# Altium footprint library XC7K160T.PcbLib: 72 footprints (part 4 of 5)
Each footprint in its own frame and in the unit in brackets; x right, y up, seen from the top. Pads: shape width x height; smd on the part's side, far side on the other; paste and mask are expansions set on the pad; w line width, h text height; cw(c..) or ccw(c..) is an arc to the next point about the centre after c.
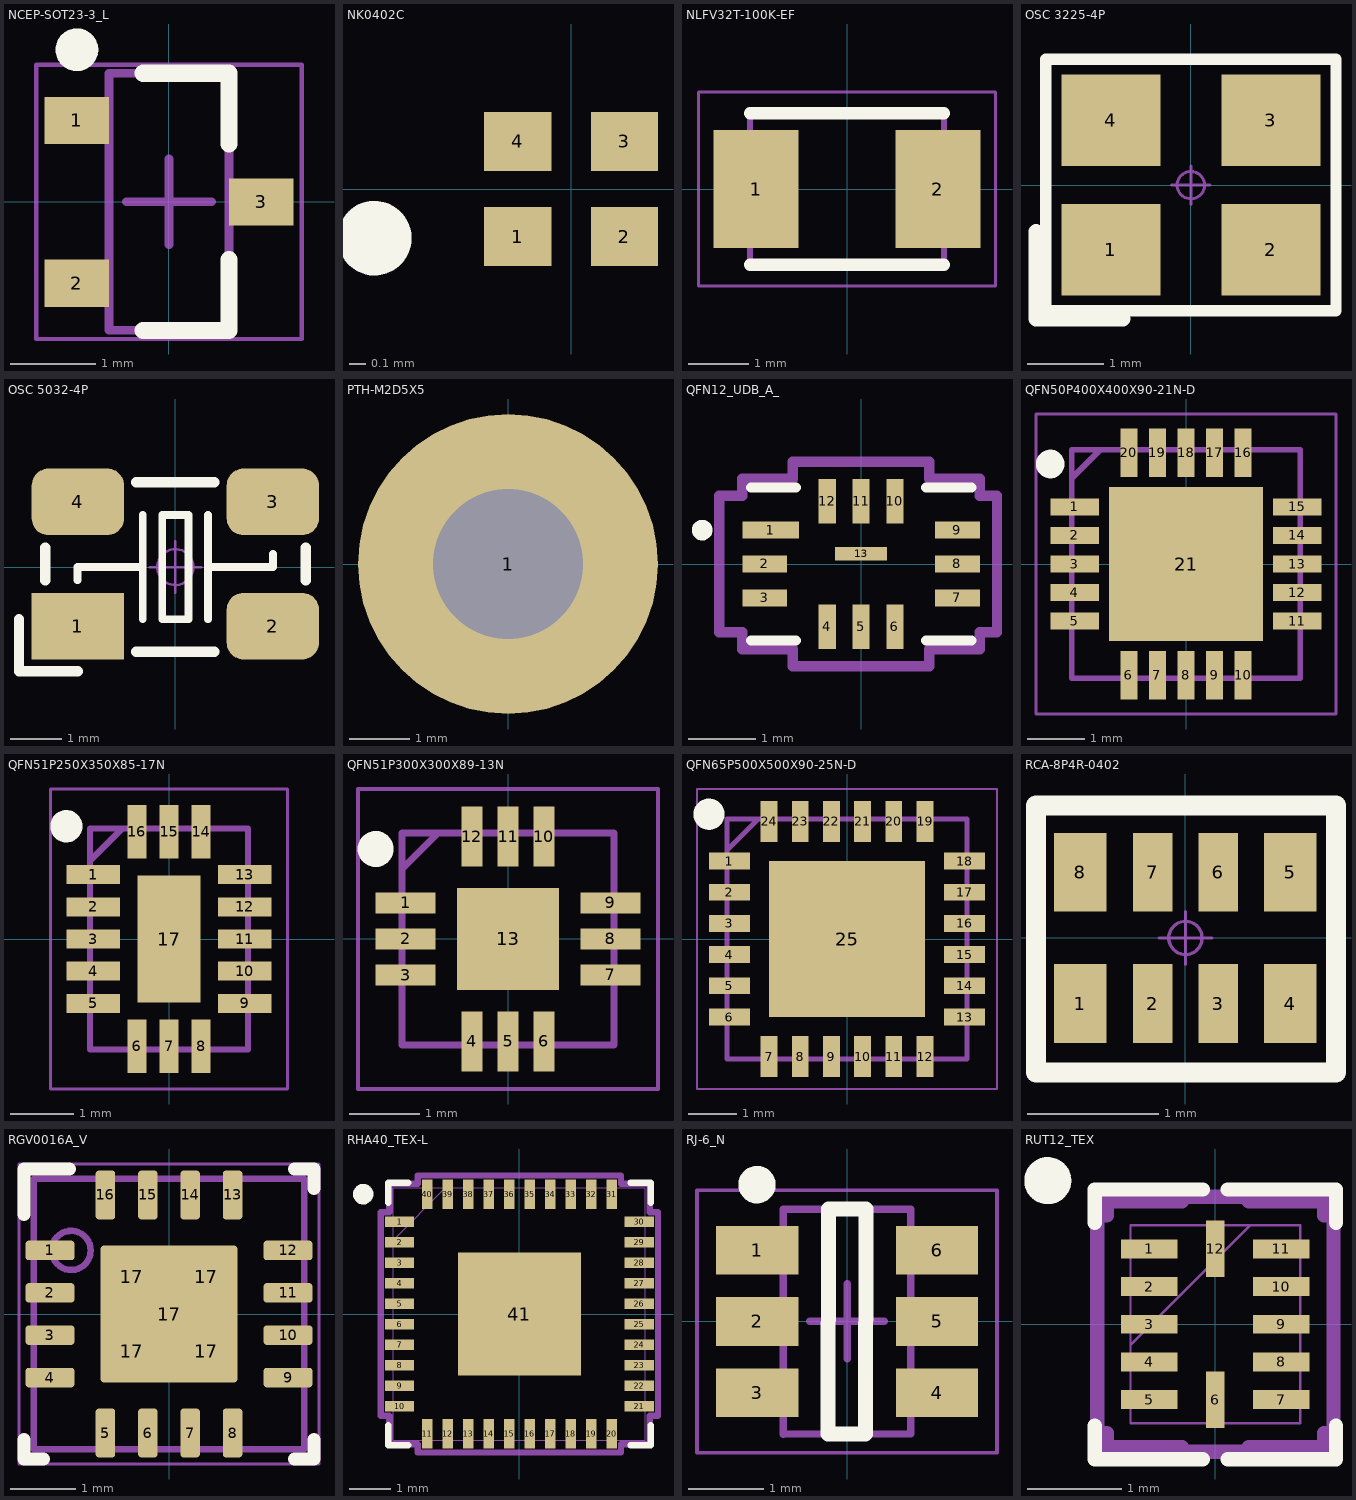
[diagram p3: the footprints below, top view; thin cyan lines are the x and y axes]

## NCEP-SOT23-3_L [mm]
pads (3):
  rect 0.75x0.55 smd: 1(-1.075,0.95) 2(-1.075,-0.95) 3(1.075,0)
Top Overlay:
  circle w0.25: c-1.075,1.775 r0.125
  lines w0.2: -0.3,-1.5 0.7,-1.5 0.7,-0.675 ; -0.3,1.5 0.7,1.5 0.7,0.675
Mechanical 13:
  lines w0.1: -0.7,-1.5 0.7,-1.5 0.7,1.5 -0.7,1.5 -0.7,-1.5
Mechanical 15:
  lines w0.05: -1.55,-1.6 1.55,-1.6 1.55,1.6 -1.55,1.6 -1.55,-1.6
  lines w0.1: -0.5,0 0.5,0 ; 0,-0.5 0,0.5
3D body "SOT95P240X115-3L.step": height 1.15, standoff 0, extent -1.275,-1.5 1.275,1.5

## NK0402C [mm] "0402 Balun MiniCircuits"
pads (4):
  rect 0.41x0.36 smd: 1(-0.325,-0.29) 2(0.325,-0.29) 3(0.325,0.29) 4(-0.325,0.29)
Top Overlay:
  circle w0.254: c-1.2,-0.3 r0.1
3D body: height 0.37, standoff 0, extent -0.5,-0.25 0.5,0.25

## NLFV32T-100K-EF [mm]
height 0.5
pads (2):
  rect 1.4x1.95 smd: 1(-1.5,0) 2(1.5,0)
Top Overlay:
  lines w0.2: -1.6,-1.25 1.6,-1.25 ; -1.6,1.25 1.6,1.25
Mechanical 13:
  lines w0.1: -1.6,-1.25 1.6,-1.25 1.6,1.25 -1.6,1.25 -1.6,-1.25
Mechanical 15:
  lines w0.05: -2.45,-1.6 2.45,-1.6 2.45,1.6 -2.45,1.6 -2.45,-1.6
3D body "NLFV32T-100K-EF.stp": height 2.4, standoff 0, extent -1.6,-1.25 1.6,1.25

## OSC 3225-4P [mm]
pads (4):
  rect 1.3x1.2 smd: 1(-1.05,-0.85) 2(1.05,-0.85) 3(1.05,0.85) 4(-1.05,0.85)
Top Overlay:
  lines w0.15: -1.905,-1.651 1.905,-1.651 1.905,1.651 -1.905,1.651 -1.905,-1.651
  lines w0.2: -2.032,-1.753 -0.889,-1.753 ; -2.032,-1.727 -2.032,-0.61
Mechanical 15:
  circle w0.04: c0,0 r0.18
  lines w0.04: -0.254,0 0.254,0 ; 0,-0.254 0,0.254
3D body "OSC 3225-4.STEP": height 0.7, standoff -0.02, extent -1.6,-1.25 1.6,1.25

## OSC 5032-4P [mm]
pads (4):
  rect 1.8x1.3 smd: 1(-1.9,-1.15)
  rrect50% 1.8x1.3 smd: 2(1.9,-1.15) 3(1.9,1.272) 4(-1.9,1.272)
Top Overlay:
  lines w0.152: -1.905,-0.254 -1.905,0 -1.397,0 -0.635,0 ; -0.635,-1.016 -0.635,1.016 ; 0.635,-1.016 0.635,1.016 ; 0.635,0 1.397,0 1.905,0 1.905,0.254 ; -0.254,-1.016 -0.254,1.016 0.254,1.016 0.254,-1.016 -0.254,-1.016
  lines w0.203: -3.048,-1.016 -3.048,-2.032 -1.905,-2.032 ; -2.54,-0.254 -2.54,0.381 ; -0.762,-1.651 0.762,-1.651 ; -0.762,1.651 0.762,1.651 ; 2.54,-0.254 2.54,0.381
Mechanical 15:
  circle w0.05: c0,0 r0.35
  lines w0.05: -0.5,0 0.5,0 ; 0,-0.5 0,0.5
3D body "OSC 5032-4.STEP": height 0.86, standoff 0.03, extent -2.5,-1.6 2.5,1.6

## PTH-M2D5X5 [mm]
pads (1):
  round 5 hole 2.5: 1(0,0)

## QFN12_UDB_A_ [mil]
pads (13):
  rect 33x10 smd paste+0 mask+0: 1(-52.5,19.68)
  rect 26x10 smd paste+0 mask+0: 2(-56,0) 3(-56,-19.68) 7(56,-19.68) 8(56,0) 9(56,19.68)
  rect 10x26 smd paste+0 mask+0: 4(-19.68,-36.5) 5(0,-36.5) 6(19.68,-36.5) 10(19.68,36.5) 11(0,36.5) 12(-19.68,36.5)
  rect 30x8 smd paste-14.5 mask+0: 13(0,6)
Top Overlay:
  circle w6: c-92.34,19.68 r3
  lines w6: -64,-44.5 -37.78,-44.5 ; -64,44.5 -37.78,44.5 ; 37.78,-44.5 64,-44.5 ; 37.78,44.5 64,44.5
Top Paste:
  region: 15,4 -15,4 -15,-4 15,-4
Mechanical 15:
  lines w6: -82.5,-39.69 -69,-39.69 -69,-49.5 -39.69,-49.5 -39.69,-59.5 39.69,-59.5 39.69,-49.5 69,-49.5 69,-39.69 79,-39.69 79,39.69 69,39.69 69,49.5 39.69,49.5 39.69,59.5 -39.69,59.5 -39.69,49.5 -69,49.5 -69,39.69 -82.5,39.69 -82.5,-39.69
3D body "UDB_12_ADI.step": height 32.09, standoff 0, extent -59.98,-42.5 61.99,40.5

## QFN50P400X400X90-21N-D [mm]
pads (21):
  rect 0.85x0.3 smd: 1(-1.95,1) 2(-1.95,0.5) 3(-1.95,0) 4(-1.95,-0.5) 5(-1.95,-1) 11(1.95,-1) 12(1.95,-0.5) 13(1.95,0) 14(1.95,0.5) 15(1.95,1)
  rect 0.3x0.85 smd: 6(-1,-1.95) 7(-0.5,-1.95) 8(0,-1.95) 9(0.5,-1.95) 10(1,-1.95) 16(1,1.95) 17(0.5,1.95) 18(0,1.95) 19(-0.5,1.95) 20(-1,1.95)
  rect 2.7x2.7 smd: 21(0,0)
Top Overlay:
  circle w0.25: c-2.375,1.75 r0.125
Mechanical 13:
  lines w0.1: -2,1.5 -1.5,2 ; -2,-2 -2,2 2,2 2,-2 -2,-2
Mechanical 15:
  lines w0.05: -2.625,-2.625 -2.625,2.625 2.625,2.625 2.625,-2.625 -2.625,-2.625
3D body "QPA1022.stp": height 0.9, standoff 0, extent -2.05,-2.05 2.05,2.05

## QFN51P250X350X85-17N [mm]
pads (17):
  rect 0.85x0.3 smd: 1(-1.2,1.02) 2(-1.2,0.51) 3(-1.2,0) 4(-1.2,-0.51) 5(-1.2,-1.02) 9(1.2,-1.02) 10(1.2,-0.51) 11(1.2,0) 12(1.2,0.51) 13(1.2,1.02)
  rect 0.3x0.85 smd: 6(-0.51,-1.7) 7(0,-1.7) 8(0.51,-1.7) 14(0.51,1.7) 15(0,1.7) 16(-0.51,1.7)
  rect 0.99x2.01 smd: 17(0,0)
Top Overlay:
  circle w0.255: c-1.626,1.785 r0.128
Mechanical 13:
  lines w0.1: -1.25,1.24 -0.74,1.75 ; -1.25,-1.75 1.25,-1.75 1.25,1.75 -1.25,1.75 -1.25,-1.75
Mechanical 15:
  lines w0.05: -1.875,-2.375 1.875,-2.375 1.875,2.375 -1.875,2.375 -1.875,-2.375
3D body "MBT-283+.stp": height 0.85, standoff 0, extent -1.3,-1.8 1.3,1.8

## QFN51P300X300X89-13N [mm]
pads (13):
  rect 0.85x0.3 smd: 1(-1.45,0.51) 2(-1.45,0) 3(-1.45,-0.51) 7(1.45,-0.51) 8(1.45,0) 9(1.45,0.51)
  rect 0.3x0.85 smd: 4(-0.51,-1.45) 5(0,-1.45) 6(0.51,-1.45) 10(0.51,1.45) 11(0,1.45) 12(-0.51,1.45)
  rect 1.45x1.45 smd: 13(0,0)
Top Overlay:
  circle w0.255: c-1.876,1.275 r0.128
Mechanical 13:
  lines w0.1: -1.5,0.99 -0.99,1.5 ; -1.5,-1.5 -1.5,1.5 1.5,1.5 1.5,-1.5 -1.5,-1.5
Mechanical 15:
  lines w0.05: -2.125,-2.125 -2.125,2.125 2.125,2.125 2.125,-2.125 -2.125,-2.125
3D body "XLF-192+.stp": height 0.89, standoff 0, extent -1.55,-1.55 1.55,1.55

## QFN65P500X500X90-25N-D [mm]
pads (25):
  rect 0.85x0.35 smd: 1(-2.45,1.625) 2(-2.45,0.975) 3(-2.45,0.325) 4(-2.45,-0.325) 5(-2.45,-0.975) 6(-2.45,-1.625) 13(2.45,-1.625) 14(2.45,-0.975) 15(2.45,-0.325) 16(2.45,0.325) 17(2.45,0.975) 18(2.45,1.625)
  rect 0.35x0.85 smd: 7(-1.625,-2.45) 8(-0.975,-2.45) 9(-0.325,-2.45) 10(0.325,-2.45) 11(0.975,-2.45) 12(1.625,-2.45) 19(1.625,2.45) 20(0.975,2.45) 21(0.325,2.45) 22(-0.325,2.45) 23(-0.975,2.45) 24(-1.625,2.45)
  rect 3.25x3.25 smd: 25(0,0)
Top Overlay:
  circle w0.325: c-2.875,2.6 r0.162
Mechanical 13:
  lines w0.1: -2.5,1.85 -1.85,2.5 ; -2.5,-2.5 -2.5,2.5 2.5,2.5 2.5,-2.5 -2.5,-2.5
Mechanical 15:
  lines w0.05: -3.125,-3.125 -3.125,3.125 3.125,3.125 3.125,-3.125 -3.125,-3.125
3D body "QPA2610.stp": height 0.9, standoff 0, extent -2.55,-2.55 2.55,2.55

## RCA-8P4R-0402 [mm]
pads (8):
  rect 0.4x0.6 smd: 1(-0.8,-0.5) 4(0.8,-0.5) 5(0.8,0.5) 8(-0.8,0.5)
  rect 0.3x0.6 smd: 2(-0.25,-0.5) 3(0.25,-0.5) 6(0.25,0.5) 7(-0.25,0.5)
Top Overlay:
  lines w0.152: -1.139,-1.024 1.147,-1.024 1.147,1.008 -1.139,1.008 -1.139,-1.024
Mechanical 15:
  circle w0.025: c0,0 r0.127
  lines w0.025: -0.2,0 0.2,0 ; 0,-0.2 0,0.2
3D body "RCA-8P4R-0402.STEP": height 0.45, standoff 0, extent -1,-0.5 1,0.5

## RGV0016A_V [mm]
pads (21):
  rrect33% 0.75x0.3 smd: 1(-1.825,0.975) 2(-1.825,0.325) 3(-1.825,-0.325) 4(-1.825,-0.975) 9(1.825,-0.975) 10(1.825,-0.325) 11(1.825,0.325) 12(1.825,0.975)
  rrect33% 0.3x0.75 smd: 5(-0.975,-1.825) 6(-0.325,-1.825) 7(0.325,-1.825) 8(0.975,-1.825) 13(0.975,1.825) 14(0.325,1.825) 15(-0.325,1.825) 16(-0.975,1.825)
  rrect50% 0.939x0.939 on Top Paste: 17(-0.57,-0.57) 17(-0.57,0.57) 17(0.57,-0.57) 17(0.57,0.57)
  rrect5% 2.1x2.1 smd paste-1.08: 17(0,0)
Top Overlay:
  lines w0.2: -2.225,-1.925 -2.225,-2.225 -1.925,-2.225 ; -2.225,1.525 -2.225,2.225 -1.525,2.225 ; 1.925,-2.225 2.225,-2.225 2.225,-1.925 ; 1.925,2.225 2.225,2.225 2.225,1.925
Mechanical 13:
  circle w0.1: c-1.5,0.975 r0.3
  lines w0.1: -2.075,-2.075 2.075,-2.075 2.075,2.075 -2.075,2.075 -2.075,-2.075
Mechanical 15:
  lines w0.05: -2.3,-2.3 -2.3,2.3 2.3,2.3 2.3,-2.3 -2.3,-2.3
  lines w0.1: -0.5,0 0.5,0 ; 0,-0.5 0,0.5
3D body: height 1, standoff 0, extent -2.075,-2.075 2.075,2.075
3D body: height 1.01, standoff 0.5, extent -1.799,0.676 -1.201,1.274

## RHA40_TEX-L [mil]
pads (41):
  rect 28x10 smd paste+0 mask+0: 1(-115,88.58) 2(-115,68.9) 3(-115,49.21) 4(-115,29.53) 5(-115,9.84) 6(-115,-9.84) 7(-115,-29.53) 8(-115,-49.21) 9(-115,-68.9) 10(-115,-88.58) 21(115,-88.58) 22(115,-68.9) 23(115,-49.21) 24(115,-29.53) 25(115,-9.84) 26(115,9.84) 27(115,29.53) 28(115,49.21) 29(115,68.9) 30(115,88.58)
  rect 10x28 smd paste+0 mask+0: 11(-88.58,-115) 12(-68.9,-115) 13(-49.21,-115) 14(-29.53,-115) 15(-9.84,-115) 16(9.84,-115) 17(29.53,-115) 18(49.21,-115) 19(68.9,-115) 20(88.58,-115) 31(88.58,115) 32(68.9,115) 33(49.21,115) 34(29.53,115) 35(9.84,115) 36(-9.84,115) 37(-29.53,115) 38(-49.21,115) 39(-68.9,115) 40(-88.58,115)
  rect 118x118 smd paste-58.5 mask-58.5: 41(0,0)
Top Overlay:
  circle w9.84: c-150,115 r4.92
  lines w6: -126,-106.68 -126,-126 -106.68,-126 ; -126,106.68 -126,126 -106.68,126 ; 106.68,-126 126,-126 126,-106.68 ; 106.68,126 126,126 126,106.68
Top Paste:
  drawing of 16 lines, arcs and shapes, not listed
Top Solder:
  region: 38.87,-61.5 38.87,61.5 61.5,61.5 61.5,-61.5
  region: 23.13,-61.5 23.13,61.5 7.87,61.5 7.87,-61.5
  region: -7.87,-61.5 -7.87,61.5 -23.13,61.5 -23.13,-61.5
  region: -61.5,-61.5 -61.5,61.5 -38.87,61.5 -38.87,-61.5
  region: -61.5,-61.5 -61.5,-38.87 61.5,-38.87 61.5,-61.5
  region: -61.5,-23.13 -61.5,-7.87 61.5,-7.87 61.5,-23.13
  region: -61.5,7.87 -61.5,23.13 61.5,23.13 61.5,7.87
  region: -61.5,38.87 -61.5,61.5 61.5,61.5 61.5,38.87
Mechanical 13:
  lines w1: -121,71 -71,121 ; -121,-121 -121,121 121,121 121,-121 -121,-121 ; -121,-94.58 -121,-82.58 -121,-94.58 ; -121,-74.9 -121,-62.9 -121,-74.9 ; -121,-55.21 -121,-43.21 -121,-55.21 ; -121,-35.53 -121,-23.53 -121,-35.53 ; -121,-15.84 -121,-3.84 -121,-15.84 ; -121,3.84 -121,15.84 -121,3.84 ; -121,23.53 -121,35.53 -121,23.53 ; -121,43.21 -121,55.21 -121,43.21 ; -121,62.9 -121,74.9 -121,62.9 ; -121,82.58 -121,94.58 -121,82.58 ; -94.58,-121 -82.58,-121 -94.58,-121 ; -94.58,121 -82.58,121 -94.58,121 ; -74.9,-121 -62.9,-121 -74.9,-121 ; -74.9,121 -62.9,121 -74.9,121 ; -55.21,-121 -43.21,-121 -55.21,-121 ; -55.21,121 -43.21,121 -55.21,121 ; -35.53,-121 -23.53,-121 -35.53,-121 ; -35.53,121 -23.53,121 -35.53,121 ; -15.84,-121 -3.84,-121 -15.84,-121 ; -15.84,121 -3.84,121 -15.84,121 ; 3.84,-121 15.84,-121 3.84,-121 ; 3.84,121 15.84,121 3.84,121 ; 23.53,-121 35.53,-121 23.53,-121 ; 23.53,121 35.53,121 23.53,121 ; 43.21,-121 55.21,-121 43.21,-121 ; 43.21,121 55.21,121 43.21,121 ; 62.9,-121 74.9,-121 62.9,-121 ; 62.9,121 74.9,121 62.9,121 ; 82.58,-121 94.58,-121 82.58,-121 ; 82.58,121 94.58,121 82.58,121 ; 121,-94.58 121,-82.58 121,-94.58 ; 121,-74.9 121,-62.9 121,-74.9 ; 121,-55.21 121,-43.21 121,-55.21 ; 121,-35.53 121,-23.53 121,-35.53 ; 121,-15.84 121,-3.84 121,-15.84 ; 121,3.84 121,15.84 121,3.84 ; 121,23.53 121,35.53 121,23.53 ; 121,43.21 121,55.21 121,43.21 ; 121,62.9 121,74.9 121,62.9 ; 121,82.58 121,94.58 121,82.58
Mechanical 15:
  lines w6: -133,-97.58 -133,97.58 -125,97.58 -125,125 -97.58,125 -97.58,133 97.58,133 97.58,125 125,125 125,97.58 133,97.58 133,-97.58 125,-97.58 125,-125 97.58,-125 97.58,-133 -97.58,-133 -97.58,-125 -125,-125 -125,-97.58 -133,-97.58
3D body: height 10, standoff 0, extent 0,0 10,10
3D body "RHA0040H.stp": height 39.37, standoff 0, extent -118.22,-118.22 118,118

## RJ-6_N [mm]
pads (6):
  rect 1.1x0.65 smd: 1(-1.2,0.95) 2(-1.2,0) 3(-1.2,-0.95) 4(1.2,-0.95) 5(1.2,0) 6(1.2,0.95)
Top Overlay:
  circle w0.25: c-1.2,1.825 r0.125
  lines w0.2: -0.25,-1.5 -0.25,1.5 0.25,1.5 0.25,-1.5 -0.25,-1.5
Mechanical 13:
  lines w0.1: -0.85,-1.5 0.85,-1.5 0.85,1.5 -0.85,1.5 -0.85,-1.5
Mechanical 15:
  lines w0.05: -2,-1.75 2,-1.75 2,1.75 -2,1.75 -2,-1.75
  lines w0.1: -0.5,0 0.5,0 ; 0,-0.5 0,0.5
3D body: height 1.45, standoff 0.05, extent -0.85,-1.5 0.85,1.5

## RUT12_TEX [mm]
pads (12):
  rect 0.6x0.2 smd paste-0.1 mask+0: 1(-0.7,0.8) 2(-0.7,0.4) 3(-0.7,0) 4(-0.7,-0.4) 5(-0.7,-0.8) 7(0.7,-0.8) 8(0.7,-0.4) 9(0.7,0) 10(0.7,0.4) 11(0.7,0.8)
  rect 0.2x0.6 smd paste-0.1 mask+0: 6(0,-0.8) 12(0,0.8)
Top Overlay:
  circle w0.25: c-1.778,1.524 r0.125
  lines w0.152: -1.281,-1.078 -1.281,-1.431 -0.134,-1.431 ; -1.281,1.078 -1.281,1.431 -0.134,1.431 ; 0.134,-1.431 1.281,-1.431 1.281,-1.078 ; 0.134,1.431 1.281,1.431 1.281,1.078
Mechanical 13:
  lines w0.025: -0.9,-0.22 0.37,1.05 ; -0.9,-1.05 -0.9,1.05 0.9,1.05 0.9,-1.05 -0.9,-1.05
Mechanical 15:
  lines w0.152: -1.254,-1.154 -1.254,1.154 -1.154,1.154 -1.154,1.304 -0.354,1.304 -0.354,1.354 0.354,1.354 0.354,1.304 1.154,1.304 1.154,1.154 1.254,1.154 1.254,-1.154 1.154,-1.154 1.154,-1.304 0.354,-1.304 0.354,-1.354 -0.354,-1.354 -0.354,-1.304 -1.154,-1.304 -1.154,-1.154 -1.254,-1.154
3D body "RUT12_TEX.step": height 0.6, standoff 0, extent -0.951,-1.101 0.951,1.101